# Altium schematic symbol library Alt.SchLib: 37 symbols
Pins are listed as number, name and electrical type; pins without a type are passive.

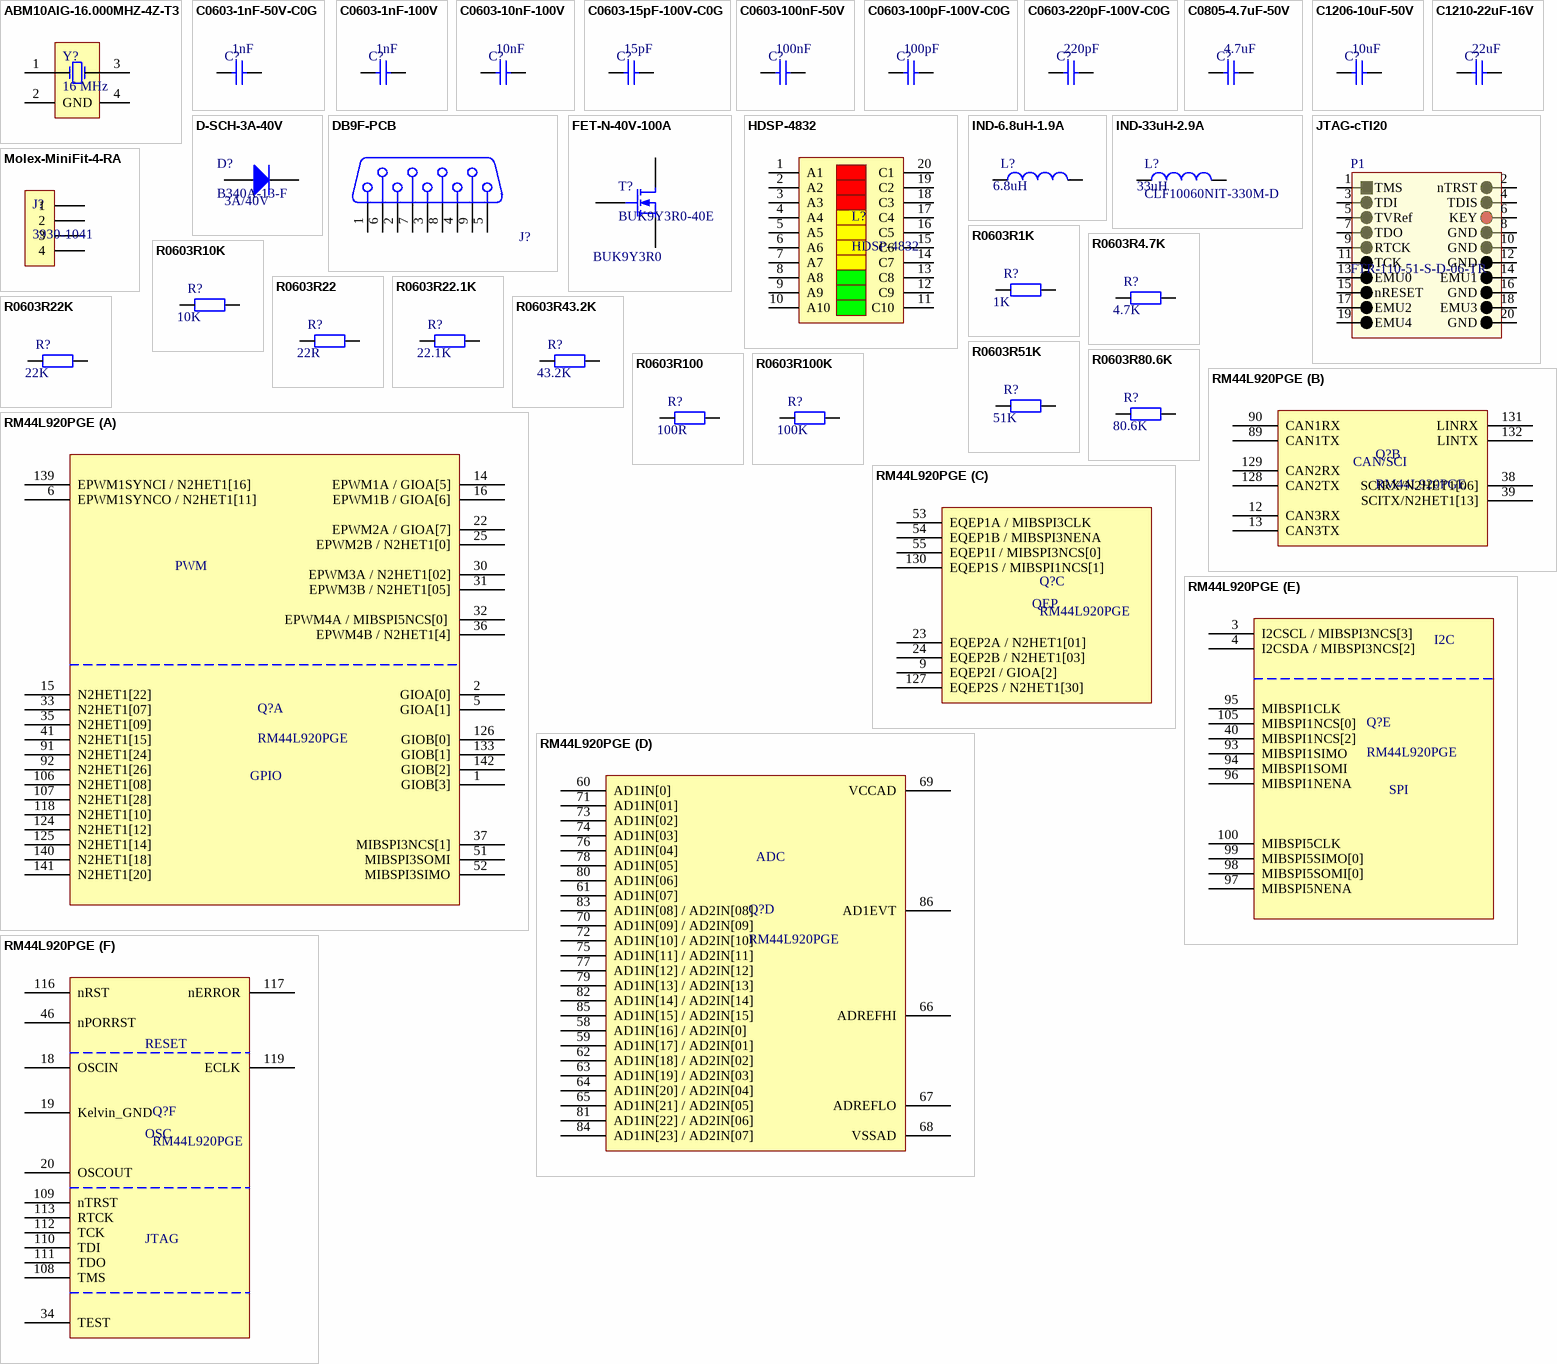
[diagram p0: symbols ABM10AIG-16.000MHZ-4Z-T3 to RM44L920PGE]

## ABM10AIG-16.000MHZ-4Z-T3
designator Y?, comment 16 MHz
Automotive&Industrial Grade Ultra Miniature Ceramic Base SMD Crystal; Supplier 1: Mouser; Supplier Part Number 1: 815-M10AIG-16-4ZT3
footprint DFN160P250X60-4N (DFN, 4-Leads, Body 2.00x2.50mm, Pitch 1.60mm, IPC Medium Density)
pins: 1 OSC1, 2 GND, 3 OSC2, 4 GND

## C0603-1nF-50V-C0G
designator C?, comment value 1nF  (hidden comment: CGA3E2C0G1H102J080AA)
0603 Capacitor, 1nF; Supplier 1: Mouser; Supplier Part Number 1: 810-CGA3E2X7R2A102K
footprint CAPC1608X08N (Chip Capacitor, 2-Leads, Body 1.60x0.80mm, IPC Medium Density, CGA3)
pins: 1, 2

## C0603-1nF-100V
designator C?, comment value 1nF  (hidden comment: CGA3E2X7R2A102K080AA)
0603 Capacitor, 1nF; Supplier 1: Mouser; Supplier Part Number 1: 810-CGA3E2C0G1H102J
footprint CAPC1608X08N (Chip Capacitor, 2-Leads, Body 1.60x0.80mm, IPC Medium Density, CGA3)
pins: 1, 2

## C0603-10nF-100V
designator C?, comment value 10nF  (hidden comment: CGA3E2X7R2A103K080AA)
0603 Capacitor, 10nF; Supplier 1: Mouser; Supplier Part Number 1: 810-CGA3E2X7R2A103K
footprint CAPC1608X08N (Chip Capacitor, 2-Leads, Body 1.60x0.80mm, IPC Medium Density, CGA3)
pins: 1, 2

## C0603-15pF-100V-C0G
designator C?, comment value 15pF  (hidden comment: CGA3E2C0G2A150J080AA)
0603 Capacitor, 15pF; Supplier Part Number 1: 810-CGA3E2C0G2A150JA; Supplier 1: Mouser
footprint CAPC1608X08N (Chip Capacitor, 2-Leads, Body 1.60x0.80mm, IPC Medium Density, CGA3)
pins: 1, 2

## C0603-100nF-50V
designator C?, comment value 100nF  (hidden comment: CGA3E2X7R1H104K080AA)
0603 Capacitor, 100nF; Supplier 1: Mouser; Supplier Part Number 1: 810-CGA3E2X7R1H104K
footprint CAPC1608X08N (Chip Capacitor, 2-Leads, Body 1.60x0.80mm, IPC Medium Density, CGA3)
pins: 1, 2

## C0603-100pF-100V-C0G
designator C?, comment value 100pF  (hidden comment: CGA3E2C0G2A101J080AA)
0603 Capacitor, 100pF; Supplier 1: Mouser; Supplier Part Number 1: 810-CGA3E2C0G2A101J
footprint CAPC1608X08N (Chip Capacitor, 2-Leads, Body 1.60x0.80mm, IPC Medium Density, CGA3)
pins: 1, 2

## C0603-220pF-100V-C0G
designator C?, comment value 220pF  (hidden comment: CGA3E2C0G2A221J080AA)
0603 Capacitor, 220pF; Supplier 1: Mouser; Supplier Part Number 1: 810-CGA3E2C0G2A221J
footprint CAPC1608X08N (Chip Capacitor, 2-Leads, Body 1.60x0.80mm, IPC Medium Density, CGA3)
pins: 1, 2

## C0805-4.7uF-50V
designator C?, comment value 4.7uF  (hidden comment: CGA4J3X5R1H475K125AB)
0805 Capacitor, 4.7uF; Supplier 1: Mouser; Supplier Part Number 1: 810-CGA4J3X5R1H475K
footprint CAPC2012X14N (Chip Capacitor, 2-Leads, Body 2.00x1.25mm, IPC Medium Density, CGA4)
pins: 1, 2

## C1206-10uF-50V
designator C?, comment value 10uF  (hidden comment: CGA5L3X5R1H106M160AB)
1206 Capacitor, 10uF; Supplier 1: Mouser; Supplier Part Number 1: 810-CGA5L3X5R1H106MB
footprint CAPC3216X18N (Chip Capacitor, 2-Leads, Body 3.20x1.60mm, IPC Medium Density, CGA5)
pins: 1, 2

## C1210-22uF-16V
designator C?, comment value 22uF  (hidden comment: CGA6P1X7R1C226M250AC)
1210 Capacitor, 22uF; Supplier 1: Mouser; Supplier Part Number 1: 810-CGA6P1X7R1C226M
footprint CAPC3225X28N (Chip Capacitor, 2-Leads, Body 3.20x2.50mm, IPC Medium Density, CGA6)
pins: 1, 2

## D-SCH-3A-40V
designator D?, comment B340A-13-F  value 3A/40V
Schottky Diode, 3A, 40A; Supplier 1: Mouser; Supplier Part Number 1: 621-B340A-F
footprint DIOM4326X24N (Molded Diode, 2-Leads, Body 4.30x2.61mm, IPC Medium Density)
pins: 1 A, 2 K

## DB9F-PCB
designator J?, comment DB9 - 2311765-2  (value not drawn)
DB9, Female, PCB, TH; PackageDocument: O; Positions: 9; Gender: Receptacle; Published: 15-Jun-2001; LatestRevisionDate: 17-Jul-2002; LatestRevisionNote: Re-released for DXP Platform.; DatasheetDocument: 1-Sep-1999; PackageReference: 788750; Publisher: Altium Limited; Orientation: Right Angle; Supplier 1: Mouser; Supplier Part Number 1: 571-2311765-2
signal-integrity model Connector
footprint DB9F-PCB-TH (Connector; D Subminiature; 9 Position; Right Angle; Pitch 1.385 mm)
pins: 1, 2, 3, 4, 5, 6, 7, 8, 9

## FET-N-40V-100A
designator T?, comment BUK9Y3R0-40E  value BUK9Y3R0
N-channel 40 V 3.0 mΩ logic level MOSFET in LFPAK56; Supplier 1: Mouser; Supplier Part Number 1: 771-BUK9Y3R0-40E115
footprint DPAK127P600X120-5N (TO, 5-Pads, Body 5.15x5.86mm (max), IPC Medium Density)
pins: 1 S, 2 S, 3 S, 4 G, 5 D

## HDSP-4832
designator L?
10-Element Bar Graph Array, Red Yellow Green; Supplier 1: Mouser; Supplier Part Number 1: 630-HDSP-4832
footprint HDSP-4832 (10-Element Bar Graph Array)
pins: 1 A1, 2 A2, 3 A3, 4 A4, 5 A5, 6 A6, 7 A7, 8 A8, 9 A9, 10 A10, 11 C10, 12 C9, 13 C8, 14 C7, 15 C6, 16 C5, 17 C4, 18 C3, 19 C2, 20 C1

## IND-6.8uH-1.9A
designator L?, comment value 6.8uH  (hidden comment: SRP3020TA-6R8M)
Inductor 6.8uH, 1.9A, 2.2A Isat; Supplier 1: Mouser; Supplier Part Number 1: 652-SRP3020TA-6R8M
footprint INDP3532X20N (Precision Wire Wound Inductor, 2-Leads, Body 3.50x3.20mm, IPC Medium Density)
pins: 1, 2

## IND-33uH-2.9A
designator L?, comment CLF10060NIT-330M-D  value 33uH
Inductor 33uH, 2.9A, 2.1A Isat; Supplier 1: Mouser; Supplier Part Number 1: 810-CLF10060NIT330MD
footprint INDP101101X63N (Precision Wire Wound Inductor, 2-Leads, Body 10.10x10.10mm, IPC Medium Density)
pins: 1, 2

## JTAG-cTI20
designator P1, comment FTR-110-51-S-D-06-TR
JTAG Header, 2x10-Pin, SMT, 1.27mm x 2.54mm; Supplier 1: Mouser; Supplier Part Number 1: 200-FTR11051SD06TR
footprint HDR-1.27x2.54-20PIN (SMT Header, 1x27x2.54mm, 2 row, 20 pin)
pins: 1 TMS, 2 nTRST, 3 TDI, 4 TDIS, 5 TVRef, 6 KEY, 7 TDO, 8 GND, 9 RTCK, 10 GND, 11 TCK, 12 GND, 13 EMU0, 14 EMU1, 15 nRESET, 16 GND, 17 EMU2, 18 EMU3, 19 EMU4, 20 GND

## Molex-MiniFit-4-RA
designator J?, comment 3930-1041
Molex MiniFit, Dual Row, Right Angle 3930-1041; Supplier 1: Mouser; Supplier Part Number 1: 538-39-30-1041
footprint MOLEX-3930-1041 (Mini-Fit Jr. Header, Dual Row, Right-Angle)
pins: 1 (power), 2 (power), 3 (power), 4 (power)

## R0603R1K
designator R?, comment value 1K  (hidden comment: ERJ-3EKF1001V)
0603 Resistor; Supplier 1: Mouser; Supplier Part Number 1: 667-ERJ-3EKF1001V
footprint RESC1608X04N (Chip Resistor, 2-Leads, Body 1.60x0.80mm, IPC Medium Density)
pins: 1, 2

## R0603R4.7K
designator R?, comment value 4.7K  (hidden comment: ERJ-3EKF4701V)
0603 Resistor; Supplier 1: Mouser; Supplier Part Number 1: 667-ERJ-3EKF4701V
footprint RESC1608X04N (Chip Resistor, 2-Leads, Body 1.60x0.80mm, IPC Medium Density)
pins: 1, 2

## R0603R10K
designator R?, comment value 10K  (hidden comment: ERJ-3EKF1002V)
0603 Resistor; Supplier 1: Mouser; Supplier Part Number 1: 667-ERJ-3EKF1002V
footprint RESC1608X04N (Chip Resistor, 2-Leads, Body 1.60x0.80mm, IPC Medium Density)
pins: 1, 2

## R0603R22
designator R?, comment value 22R  (hidden comment: ERJ-3EKF22R0V)
0603 Resistor; Supplier 1: Mouser; Supplier Part Number 1: 667-ERJ-3EKF22R0V
footprint RESC1608X04N (Chip Resistor, 2-Leads, Body 1.60x0.80mm, IPC Medium Density)
pins: 1, 2

## R0603R22.1K
designator R?, comment value 22.1K  (hidden comment: ERJ-3EKF2212V)
0603 Resistor; Supplier 1: Mouser; Supplier Part Number 1: 667-ERJ-3EKF2212V
footprint RESC1608X04N (Chip Resistor, 2-Leads, Body 1.60x0.80mm, IPC Medium Density)
pins: 1, 2

## R0603R22K
designator R?, comment value 22K  (hidden comment: ERJ-3EKF2202V)
0603 Resistor; Supplier 1: Mouser; Supplier Part Number 1: 667-ERJ-3EKF2202V
footprint RESC1608X04N (Chip Resistor, 2-Leads, Body 1.60x0.80mm, IPC Medium Density)
pins: 1, 2

## R0603R43.2K
designator R?, comment value 43.2K  (hidden comment: ERJ-3EKF4322V)
0603 Resistor; Supplier 1: Mouser; Supplier Part Number 1: 667-ERJ-3EKF4322V
footprint RESC1608X04N (Chip Resistor, 2-Leads, Body 1.60x0.80mm, IPC Medium Density)
pins: 1, 2

## R0603R51K
designator R?, comment value 51K  (hidden comment: ERJ-3EKF5102V)
0603 Resistor; Supplier 1: Mouser; Supplier Part Number 1: 667-ERJ-3EKF5102V
footprint RESC1608X04N (Chip Resistor, 2-Leads, Body 1.60x0.80mm, IPC Medium Density)
pins: 1, 2

## R0603R80.6K
designator R?, comment value 80.6K  (hidden comment: ERJ-3EKF8062V)
0603 Resistor; Supplier 1: Mouser; Supplier Part Number 1: 667-ERJ-3EKF8062V
footprint RESC1608X04N (Chip Resistor, 2-Leads, Body 1.60x0.80mm, IPC Medium Density)
pins: 1, 2

## R0603R100
designator R?, comment value 100R  (hidden comment: ERJ-3EKF1000V)
0603 Resistor; Supplier 1: Mouser; Supplier Part Number 1: 667-ERJ-3EKF1000V
footprint RESC1608X04N (Chip Resistor, 2-Leads, Body 1.60x0.80mm, IPC Medium Density)
pins: 1, 2

## R0603R100K
designator R?, comment value 100K  (hidden comment: ERJ-3EKF1003V)
0603 Resistor; Supplier 1: Mouser; Supplier Part Number 1: 667-ERJ-3EKF1003V
footprint RESC1608X04N (Chip Resistor, 2-Leads, Body 1.60x0.80mm, IPC Medium Density)
pins: 1, 2

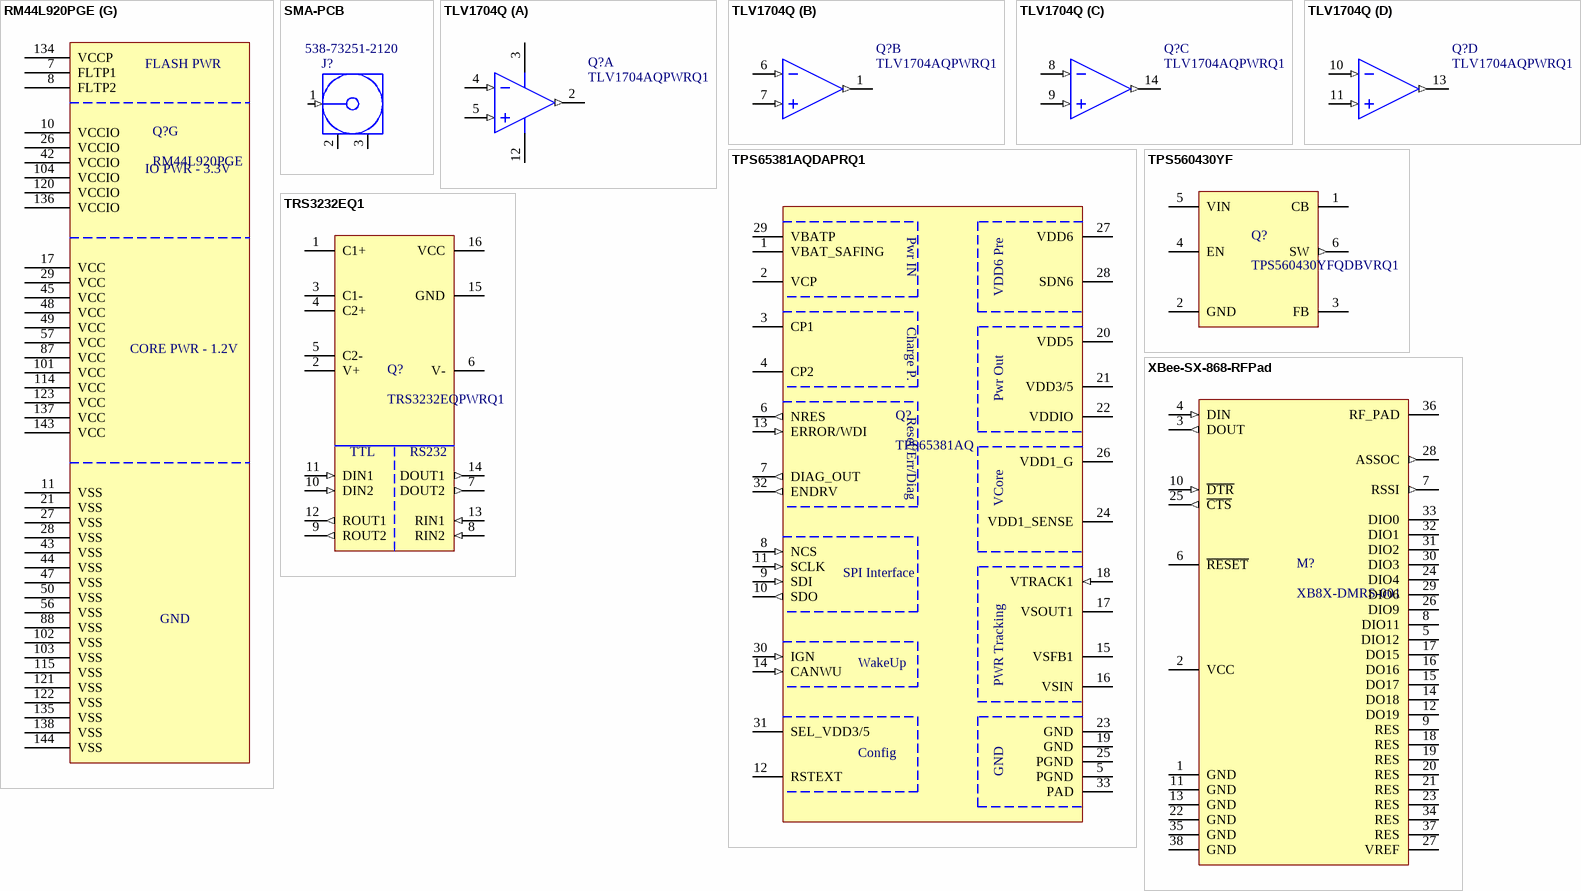
[diagram p1: symbols RM44L920PGE to XBee-SX-868-RFPad]

## RM44L920PGE
designator Q?
RM44Lx20 16- and 32-Bit RISC Flash Microcontroller; Supplier 1: Mouser; Supplier Part Number 1: 595-RM44L920APGET
footprint TSQFP50P2200X2200X145-144N (TSQFP, 144-Leads, Body 20.00x20.00mm, Pitch 0.50mm, IPC Medium Density)
part A pins: 1 GIOB[3], 2 GIOA[0], 5 GIOA[1], 6 EPWM1SYNCO / N2HET1[11], 14 EPWM1A / GIOA[5], 15 N2HET1[22], 16 EPWM1B / GIOA[6], 22 EPWM2A / GIOA[7], 25 EPWM2B / N2HET1[0], 30 EPWM3A / N2HET1[02], 31 EPWM3B / N2HET1[05], 32 EPWM4A / MIBSPI5NCS[0] , 33 N2HET1[07], 35 N2HET1[09], 36 EPWM4B / N2HET1[4], 37 MIBSPI3NCS[1], 41 N2HET1[15], 51 MIBSPI3SOMI, 52 MIBSPI3SIMO, 91 N2HET1[24], 92 N2HET1[26], 106 N2HET1[08], 107 N2HET1[28], 118 N2HET1[10], 124 N2HET1[12], 125 N2HET1[14], 126 GIOB[0], 133 GIOB[1], 139 EPWM1SYNCI / N2HET1[16], 140 N2HET1[18], 141 N2HET1[20], 142 GIOB[2]
part B pins: 12 CAN3RX, 13 CAN3TX, 38 SCIRX/N2HET1[06], 39 SCITX/N2HET1[13], 89 CAN1TX, 90 CAN1RX, 128 CAN2TX, 129 CAN2RX, 131 LINRX, 132 LINTX
part C pins: 9 EQEP2I / GIOA[2], 23 EQEP2A / N2HET1[01], 24 EQEP2B / N2HET1[03], 53 EQEP1A / MIBSPI3CLK, 54 EQEP1B / MIBSPI3NENA, 55 EQEP1I / MIBSPI3NCS[0], 127 EQEP2S / N2HET1[30], 130 EQEP1S / MIBSPI1NCS[1]
part D pins: 58 AD1IN[16] / AD2IN[0], 59 AD1IN[17] / AD2IN[01], 60 AD1IN[0], 61 AD1IN[07], 62 AD1IN[18] / AD2IN[02], 63 AD1IN[19] / AD2IN[03], 64 AD1IN[20] / AD2IN[04], 65 AD1IN[21] / AD2IN[05], 66 ADREFHI, 67 ADREFLO, 68 VSSAD, 69 VCCAD, 70 AD1IN[09] / AD2IN[09], 71 AD1IN[01], 72 AD1IN[10] / AD2IN[10], 73 AD1IN[02], 74 AD1IN[03], 75 AD1IN[11] / AD2IN[11], 76 AD1IN[04], 77 AD1IN[12] / AD2IN[12], 78 AD1IN[05], 79 AD1IN[13] / AD2IN[13], 80 AD1IN[06], 81 AD1IN[22] / AD2IN[06], 82 AD1IN[14] / AD2IN[14], 83 AD1IN[08] / AD2IN[08], 84 AD1IN[23] / AD2IN[07], 85 AD1IN[15] / AD2IN[15], 86 AD1EVT
part E pins: 3 I2CSCL / MIBSPI3NCS[3], 4 I2CSDA / MIBSPI3NCS[2], 40 MIBSPI1NCS[2], 93 MIBSPI1SIMO, 94 MIBSPI1SOMI, 95 MIBSPI1CLK, 96 MIBSPI1NENA, 97 MIBSPI5NENA, 98 MIBSPI5SOMI[0], 99 MIBSPI5SIMO[0], 100 MIBSPI5CLK, 105 MIBSPI1NCS[0]
part F pins: 18 OSCIN, 19 Kelvin_GND, 20 OSCOUT, 34 TEST, 46 nPORRST, 108 TMS, 109 nTRST, 110 TDI, 111 TDO, 112 TCK, 113 RTCK, 116 nRST, 117 nERROR, 119 ECLK
part G pins: 7 FLTP1, 8 FLTP2, 10 VCCIO, 11 VSS, 17 VCC, 21 VSS, 26 VCCIO, 27 VSS, 28 VSS, 29 VCC, 42 VCCIO, 43 VSS, 44 VSS, 45 VCC, 47 VSS, 48 VCC, 49 VCC, 50 VSS, 56 VSS, 57 VCC, 87 VCC, 88 VSS, 101 VCC, 102 VSS, 103 VSS, 104 VCCIO, 114 VCC, 115 VSS, 120 VCCIO, 121 VSS, 122 VSS, 123 VCC, 134 VCCP, 135 VSS, 136 VCCIO, 137 VCC, 138 VSS, 143 VCC, 144 VSS
part A text: PWM; GPIO
part B text: CAN/SCI
part C text: QEP
part D text: ADC
part E text: I2C; SPI
part F text: RESET; OSC; JTAG
part G text: FLASH PWR; IO PWR - 3.3V; CORE PWR - 1.2V; GND

## SMA-PCB
designator J?, comment Supplier Part Number 1: 538-73251-2120  (hidden comment: 73251-2120)
RF Coaxial PCB Connector, 50 Ohms, SMA Jack, Edge Mount; PCB_Layout: Complies with manufacturer's recommendation.; DrillSize: Corresponds to nominal value.; Published: 15-Jul-2004; LatestRevisionDate: 15-Jul-2004; LatestRevisionNote: Component Replaced.; DatasheetDocument: 30-May-2003; PackageDocument: 04-Jul-1999; PackageReference: 919-119J-51AX; Publisher: Altium Limited; ComponentLink1Description: Manufacturer Link; ComponentLink1URL: http://www.amphenolrf.com/; Supplier 1: Mouser
footprint MOLEX-SMA-PCB (50 Ohms, SMA Jack, Edge Mount)
pins: 1 Signal (in) "Signal Pin", 2 GND (power), 3 GND (power)

## TLV1704Q
designator Q?, comment TLV1704AQPWRQ1
TLV1704-Q1 2.2-V to 36-V, microPower Comparator, 4 channels; Published: 8-Jun-2000; LatestRevisionDate: 17-Jul-2002; LatestRevisionNote: Re-released for DXP Platform.; DatasheetVersion: REV. B; PackageVersion: 1990; PackageReference: H-08A; Publisher: Altium Limited; PackageDescription: Can; 8 Leads; Pin Circle Dia. 5.08 mm; Lead Dia. 0.53 mm (max); ComponentLink1Description: Manufacturer Link; ComponentLink1URL: http://www.analog.com/; Supplier 1: Mouser; Supplier Part Number 1: 595-TLV1704AQPWRQ1
footprint TSOP65P640X120-14N (TSOP, 14-Leads, Body 5.00x4.40mm, Pitch 0.65mm, IPC Medium Density)
part A pins: 2 OUT1 (out), 3 V+ (power), 4 IN1- (in), 5 IN1+ (in), 12 V- (power)
part B pins: 1 OUT2 (out), 6 IN2- (in), 7 IN2+ (in)
part C pins: 8 IN3- (in), 9 IN3+ (in), 14 OUT3 (out)
part D pins: 10 IN4- (in), 11 IN4+ (in), 13 OUT4 (out)

## TPS65381AQDAPRQ1
designator Q?, comment TPS65381AQ
Multirail Power Supply for Microcontrollers in Safety-Relevant Applications; Supplier 1: Mouser; Supplier Part Number 1: 595-TPS65381AQDAPRQ1
footprint TSOP65P810X120_HS-33N (TSOP, 32-Leads, Body 11.00x6.10mm, Pitch 0.65mm, Thermal Pad 5.72x4.16mm, IPC Medium Density)
pins: 1 VBAT_SAFING (power), 2 VCP, 3 CP1, 4 CP2, 5 PGND (power), 6 NRES (out), 7 DIAG_OUT (out), 8 NCS (in), 9 SDI (in), 10 SDO (out), 11 SCLK (in), 12 RSTEXT, 13 ERROR/WDI (in), 14 CANWU (in), 15 VSFB1, 16 VSIN, 17 VSOUT1 (power), 18 VTRACK1 (in), 19 GND, 20 VDD5 (power), 21 VDD3/5 (power), 22 VDDIO (power), 23 GND, 24 VDD1_SENSE, 25 PGND, 26 VDD1_G, 27 VDD6, 28 SDN6, 29 VBATP (power), 30 IGN (in), 31 SEL_VDD3/5, 32 ENDRV (out), 33 PAD
text: Pwr IN; VDD6 Pre; Charge P.; Pwr Out; Reset/Err/Diag; VCore; SPI Interface; WakeUp; PWR Tracking; Config

## TPS560430YF
designator Q?, comment TPS560430YFQDBVRQ1
TPS560430-Q1 SIMPLE SWITCHER 4-V to 36-V, 600-mA Synchronous Buck Converter; Supplier 1: Mouser; Supplier Part Number 1: 595-S560430YFQDBVRQ1
footprint SOT95P280X110-6N (SOT23, 6-Leads, Body 2.90x2.80mm, Pitch 0.95mm, IPC Medium Density)
pins: 1 CB, 2 GND (power), 3 FB, 4 EN, 5 VIN (power), 6 SW (out)

## TRS3232EQ1
designator Q?, comment TRS3232EQPWRQ1
3-V TO 5.5-V MULTICHANNEL RS-232 LINE DRIVER/RECEIVER WITH ±15-kV IEC ESD PROTECTION; Supplier 1: Mouser; Supplier Part Number 1: 595-TRS3232EQPWRQ1
footprint TSOP65P640X120-16N (TSOP, 16-Leads, Body 5.00x4.40mm, Pitch 0.65mm, IPC Medium Density)
pins: 1 C1+, 2 V+, 3 C1-, 4 C2+, 5 C2-, 6 V-, 7 DOUT2 (out), 8 RIN2 (in), 9 ROUT2 (out), 10 DIN2 (in), 11 DIN1 (in), 12 ROUT1 (out), 13 RIN1 (in), 14 DOUT1 (out), 15 GND (power), 16 VCC (power)
text: TTL; RS232

## XBee-SX-868-RFPad
designator M?, comment XB8X-DMRS-001
868 MHz RF module; Supplier 1: Mouser; Supplier Part Number 1: 888-XB8X-DMRS-001
footprint XBEESX868MOD (LCC, 48-Pins, Body 22.10x33.78mmx3.50mm, Pitch 2.00mm, IPC Medium Density)
pins: 1 GND (power), 2 VCC (power), 3 DOUT (out), 4 DIN (in), 5 DIO12, 6 ~{RESET}, 7 RSSI (out), 8 DIO11, 9 RES, 10 ~{DTR} (in), 11 GND (power), 12 DO19, 13 GND (power), 14 DO18, 15 DO17, 16 DO16, 17 DO15, 18 RES, 19 RES, 20 RES, 21 RES, 22 GND (power), 23 RES, 24 DIO4, 25 ~{CTS} (out), 26 DIO9, 27 VREF, 28 ASSOC (out), 29 DIO6, 30 DIO3, 31 DIO2, 32 DIO1, 33 DIO0, 34 RES, 35 GND (power), 36 RF_PAD, 37 RES, 38 GND (power)